# Altium footprint library HZIP25-P-1.27.PcbLib: 1 footprints
Each footprint in its own frame and in the unit in brackets; x right, y up, seen from the top. Pads: shape width x height; smd on the part's side, far side on the other; paste and mask are expansions set on the pad; w line width, h text height; cw(c..) or ccw(c..) is an arc to the next point about the centre after c.
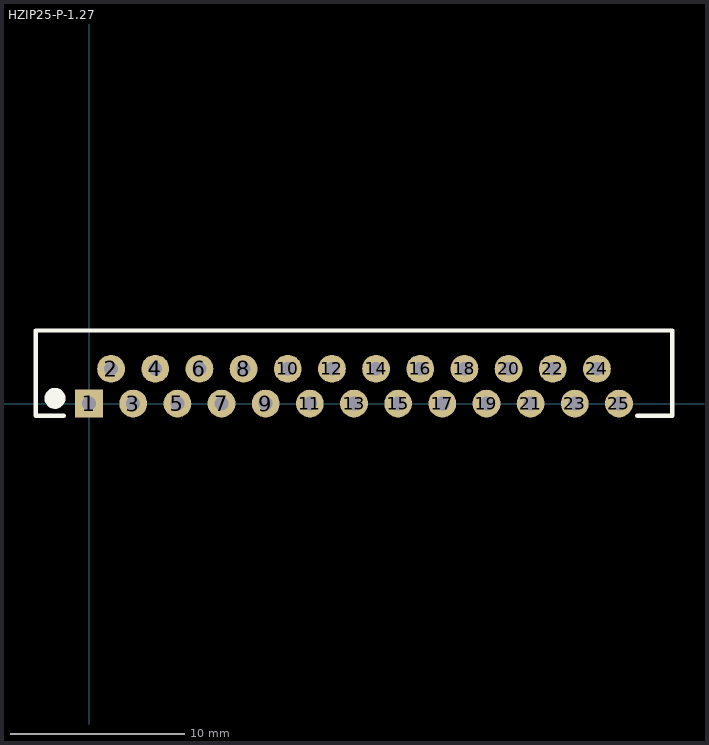
[diagram p0: the footprint, top view; thin cyan lines are the x and y axes]

## HZIP25-P-1.27 [mm] "Stepping Motor Driver IC"
pads (25):
  rect 1.6x1.6 hole 0.8: 1(0,0)
  round 1.6 hole 0.8: 2(1.27,2) 3(2.54,0) 4(3.81,2) 5(5.08,0) 6(6.35,2) 7(7.62,0) 8(8.89,2) 9(10.16,0) 10(11.43,2) 11(12.7,0) 12(13.97,2) 13(15.24,0) 14(16.51,2) 15(17.78,0) 16(19.05,2) 17(20.32,0) 18(21.59,2) 19(22.86,0) 20(24.13,2) 21(25.4,0) 22(26.67,2) 23(27.94,0) 24(29.21,2) 25(30.48,0)
Top Overlay:
  circle w0.6: c-1.96,0.3 r0.3
  lines w0.254: -1.46,-0.7 -3.06,-0.7 -3.06,4.2 33.54,4.2 33.54,-0.7 31.54,-0.7